# EAGLE library part DRV8301 (library IC)
The DRV8301 is a gate driver IC for three-phase motor drive applications. The device provides three half-bridge drivers, each capable of driving two Nchannel MOSFETs. The DRV8301 supports up to 1.7-A source and 2.3-A peak current capability. The DRV8301 can operate off of a single power supply with a wide range from 6-V to 60-V. The device uses a bootstrap gate driver architecture with trickle charge circuitry to support 100% duty cycle. The DRV8301 uses automatic handshaking when the high-side or low-side MOSFET is switching to prevent flow of current. Integrated VDS sensing of the high-side and low-side MOSFETs is used to protect the external power stage against overcurrent conditions. The DRV8301 includes two current shunt amplifiers for accurate current measurement. The amplifiers support bidirectional current sensing and provide an adjustable output offset up to 3 V. The DRV8301 also includes an integrated switching mode buck converter with adjustable output and switching frequency. The buck converter can provide up to 1.5 A to support MCU or additional system power needs. The SPI provides detailed fault reporting and flexible parameter settings such as gain options for the current shunt amplifiers and slew rate control of the gate drivers. Note: An automotive version exsists
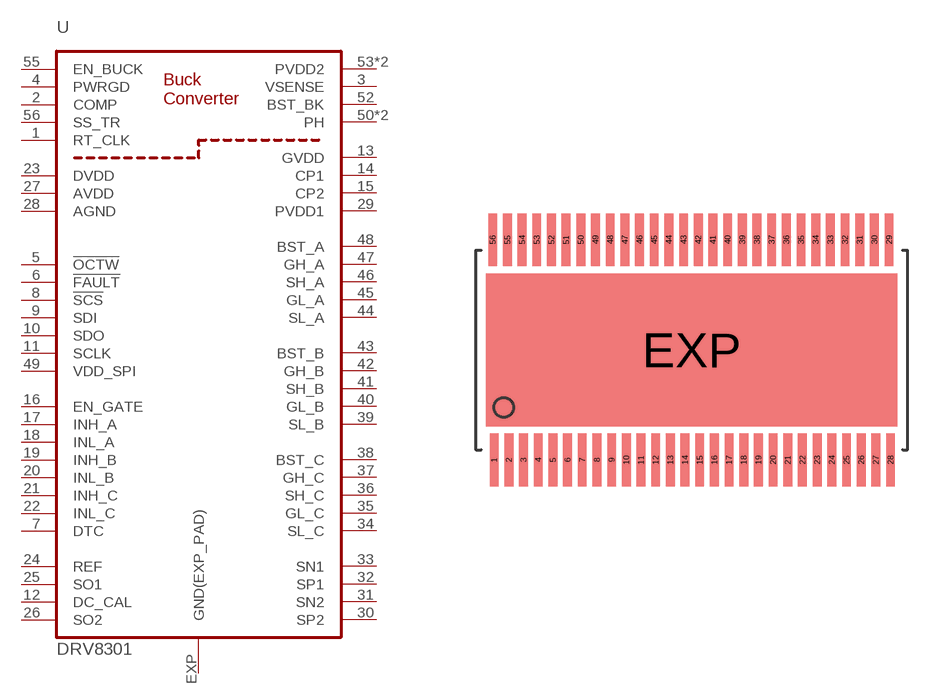
[diagram p0: symbol with the pads of HTSSOP_56; footprint HTSSOP_56]

Designator prefix U

## DRV8301  [HTSSOP_56]
1  RT_CLK  in
2  COMP  out
3  VSENSE  in
4  PWRGD  out
5  !OCTW  out
6  !FAULT  out
7  DTC  in
8  !SCS  in
9  SDI  in
10  SDO  out
11  SCLK  in
12  DC_CAL  in
13  GVDD  pwr
14  CP1  pwr
15  CP2  pwr
16  EN_GATE  in
17  INH_A  in
18  INL_A  in
19  INH_B  in
20  INL_B  in
21  INH_C  in
22  INL_C  in
23  DVDD  pwr
24  REF  in
25  SO1  out
26  SO2  out
27  AVDD  pwr
28  AGND  pwr
29  PVDD1  pwr
30  SP2  in
31  SN2  in
32  SP1  in
33  SN1  in
34  SL_C  in
35  GL_C  out
36  SH_C  in
37  GH_C  out
38  BST_C  pwr
39  SL_B  in
40  GL_B  out
41  SH_B  in
42  GH_B  out
43  BST_B  pwr
44  SL_A  in
45  GL_A  out
46  SH_A  in
47  GH_A  out
48  BST_A  pwr
49  VDD_SPI  in
50  PH  out
51  PH  out
52  BST_BK  pwr
53  PVDD2  pwr
54  PVDD2  pwr
55  EN_BUCK  in
56  SS_TR  in
EXP  GND(EXP_PAD)

## Footprint HTSSOP_56 (pad centres in mm)
smd 0.3 x 1.8: 1 -6.81,-3.545; 2 -6.31,-3.545; 3 -5.81,-3.545; 4 -5.31,-3.545; 5 -4.81,-3.545; 6 -4.31,-3.545; 7 -3.81,-3.545; 8 -3.31,-3.545; 9 -2.81,-3.545; 10 -2.31,-3.545; 11 -1.81,-3.545; 12 -1.31,-3.545; 13 -0.81,-3.545; 14 -0.31,-3.545; 15 0.19,-3.545; 16 0.69,-3.545; 17 1.19,-3.545; 18 1.69,-3.545; 19 2.19,-3.545; 20 2.69,-3.545; 21 3.19,-3.545; 22 3.69,-3.545; 23 4.19,-3.545; 24 4.69,-3.545; 25 5.19,-3.545; 26 5.69,-3.545; 27 6.19,-3.545; 28 6.69,-3.545; 29 6.64,3.955; 30 6.14,3.955; 31 5.64,3.955; 32 5.14,3.955; 33 4.64,3.955; 34 4.14,3.955; 35 3.64,3.955; 36 3.14,3.955; 37 2.64,3.955; 38 2.14,3.955; 39 1.64,3.955; 40 1.14,3.955; 41 0.64,3.955; 42 0.14,3.955; 43 -0.36,3.955; 44 -0.86,3.955; 45 -1.36,3.955; 46 -1.86,3.955; 47 -2.36,3.955; 48 -2.86,3.955; 49 -3.36,3.955; 50 -3.86,3.955; 51 -4.36,3.955; 52 -4.86,3.955; 53 -5.36,3.955; 54 -5.86,3.955; 55 -6.36,3.955; 56 -6.86,3.955
smd 14 x 5.2: EXP -0.085,0.205